# EAGLE library part ESP07 (library NicShackle)
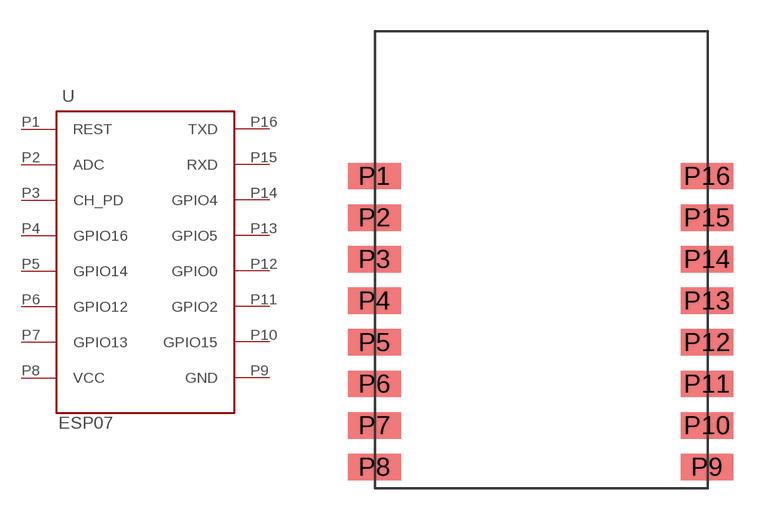
[diagram p0: symbol with the pads of ESP07; footprint ESP07]

Designator prefix -

## ESP07B-SMD  [ESP07]
P1  REST
P2  ADC
P3  CH_PD
P4  GPIO16
P5  GPIO14
P6  GPIO12
P7  GPIO13
P8  VCC
P9  GND
P10  GPIO15
P11  GPIO2
P12  GPIO0
P13  GPIO5
P14  GPIO4
P15  RXD
P16  TXD

## Footprint ESP07 (pad centres in mm)
smd 2.54 x 1.27: P1 -8.028,8.027; P2 -8.028,6.027; P3 -8.028,4.027; P4 -8.028,2.027; P5 -8.028,0.027; P6 -8.028,-1.973; P7 -8.028,-3.973; P8 -8.028,-5.973; P9 7.972,-5.973; P10 7.972,-3.973; P11 7.972,-1.973; P12 7.972,0.027; P13 7.972,2.027; P14 7.972,4.027; P15 7.972,6.027; P16 7.972,8.027